# Altium footprint library CL10A106MQ8NNNC.PcbLib: 3 footprints
Each footprint in its own frame and in the unit in brackets; x right, y up, seen from the top. Pads: shape width x height; smd on the part's side, far side on the other; paste and mask are expansions set on the pad; w line width, h text height; cw(c..) or ccw(c..) is an arc to the next point about the centre after c.
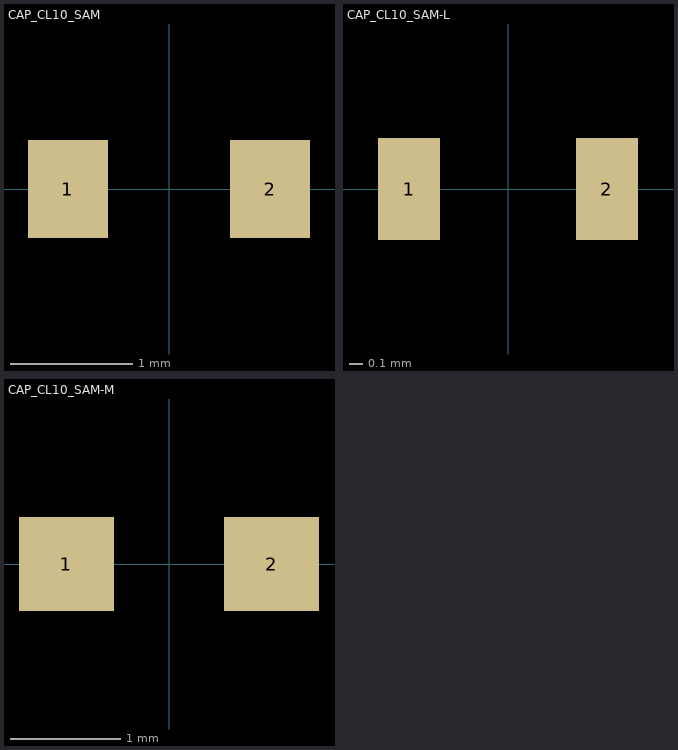
[diagram p0: the footprints below, top view; thin cyan lines are the x and y axes]

## CAP_CL10_SAM [mm]
pads (2):
  rect 0.656x0.8 smd paste+0 mask+0: 1(-0.828,0) 2(0.828,0)

## CAP_CL10_SAM-L [mm]
pads (2):
  rect 0.452x0.749 smd paste+0 mask+0: 1(-0.726,0) 2(0.726,0)

## CAP_CL10_SAM-M [mm]
pads (2):
  rect 0.859x0.851 smd paste+0 mask+0: 1(-0.929,0) 2(0.929,0)